# EAGLE library part PINHD-2X20-SIDE (library SquantorConnectors)
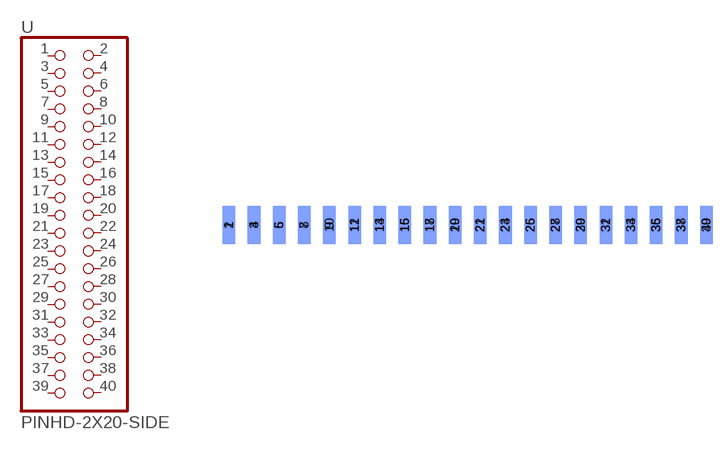
[diagram p48: symbol with the pads of 2X20SIDE; footprint 2X20SIDE]

Designator prefix -

## PINHD-2X20-SIDE  [2X20SIDE]
1  1  pas
2  2  pas
3  3  pas
4  4  pas
5  5  pas
6  6  pas
7  7  pas
8  8  pas
9  9  pas
10  10  pas
11  11  pas
12  12  pas
13  13  pas
14  14  pas
15  15  pas
16  16  pas
17  17  pas
18  18  pas
19  19  pas
20  20  pas
21  21  pas
22  22  pas
23  23  pas
24  24  pas
25  25  pas
26  26  pas
27  27  pas
28  28  pas
29  29  pas
30  30  pas
31  31  pas
32  32  pas
33  33  pas
34  34  pas
35  35  pas
36  36  pas
37  37  pas
38  38  pas
39  39  pas
40  40  pas

## Footprint 2X20SIDE (pad centres in mm)
smd 1.27 x 3.81: 1 -24.13,0; 3 -21.59,0; 5 -19.05,0; 7 -16.51,0; 9 -13.97,0; 11 -11.43,0; 13 -8.89,0; 15 -6.35,0; 17 -3.81,0; 19 -1.27,0; 21 1.27,0; 23 3.81,0; 25 6.35,0; 27 8.89,0; 29 11.43,0; 31 13.97,0; 33 16.51,0; 35 19.05,0; 37 21.59,0; 39 24.13,0
smd 1.27 x 3.81 bottom: 2 -24.13,0; 4 -21.59,0; 6 -19.05,0; 8 -16.51,0; 10 -13.97,0; 12 -11.43,0; 14 -8.89,0; 16 -6.35,0; 18 -3.81,0; 20 -1.27,0; 22 1.27,0; 24 3.81,0; 26 6.35,0; 28 8.89,0; 30 11.43,0; 32 13.97,0; 34 16.51,0; 36 19.05,0; 38 21.59,0; 40 24.13,0